# Altium schematic symbol library ESP32DEVKITV1.SchLib: 1 symbol
Pins are listed as number, name and electrical type; pins without a type are passive.

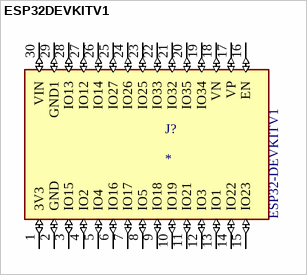
[diagram p0: symbol ESP32DEVKITV1]

## ESP32DEVKITV1
designator J?
Dual core, Wi-Fi: 2.4 GHz up to 150 Mbits/s,BLE (Bluetooth Low Energy) and legacy Bluetooth, 32 bits, Up to 240 MHz; MF: Do it; MP: ESP32 DEVKIT V1; Package: Package; Value: *; Availability: Unavailable; SnapEDA_Link: https://www.snapeda.com/parts/ESP32%20DEVKIT%20V1/Do%20it/view-part/5659245/?ref=snap; Price: None; Check_prices: https://www.snapeda.com/parts/ESP32%20DEVKIT%20V1/Do%20it/view-part/5659245/?ref=eda
footprint ESP32-DEVKITV1
pins: 1 3V3 (io), 2 GND (io), 3 IO15 (io), 4 IO2 (io), 5 IO4 (io), 6 IO16 (io), 7 IO17 (io), 8 IO5 (io), 9 IO18 (io), 10 IO19 (io), 11 IO21 (io), 12 IO3 (io), 13 IO1 (io), 14 IO22 (io), 15 IO23 (io), 16 EN (io), 17 VP (io), 18 VN (io), 19 IO34 (io), 20 IO35 (io), 21 IO32 (io), 22 IO33 (io), 23 IO25 (io), 24 IO26 (io), 25 IO27 (io), 26 IO14 (io), 27 IO12 (io), 28 IO13 (io), 29 GND1 (io), 30 VIN (io)
text: ESP32-DEVKITV1